# Altium footprint library 电阻.PcbLib: 63 footprints (part 3 of 4)
Each footprint in its own frame and in the unit in brackets; x right, y up, seen from the top. Pads: shape width x height; smd on the part's side, far side on the other; paste and mask are expansions set on the pad; w line width, h text height; cw(c..) or ccw(c..) is an arc to the next point about the centre after c.
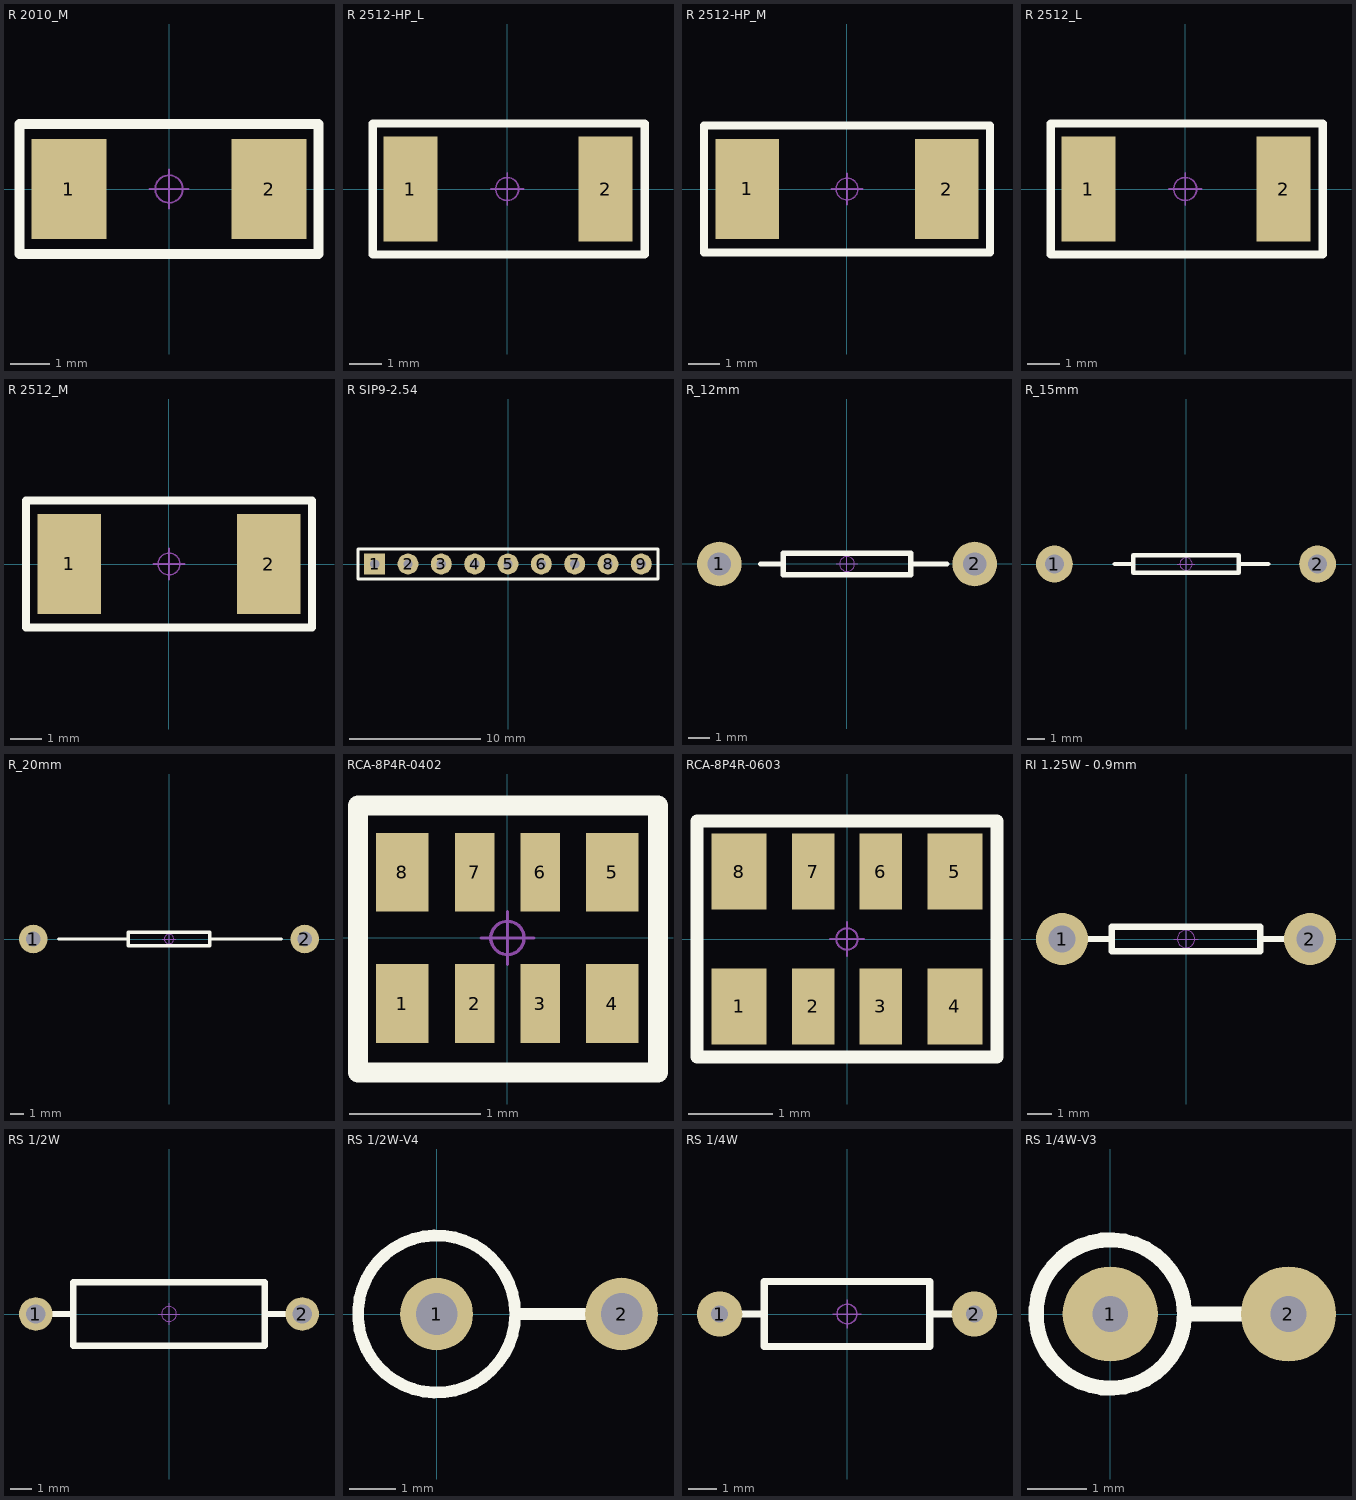
[diagram p2: the footprints below, top view; thin cyan lines are the x and y axes]

## R 2010_M [mm] "3/4W贴片电阻"
pads (2):
  rect 1.905x2.54 smd: 1(-2.55,0) 2(2.55,0)
Top Overlay:
  lines w0.254: -3.81,-1.651 -3.81,0.635 -3.81,1.651 1.27,1.651 3.81,1.651 3.81,-0.635 3.81,-1.651 1.27,-1.651 -3.81,-1.651
Mechanical 15:
  circle w0.05: c0,0 r0.35
  lines w0.05: -0.5,0 0.5,0 ; 0,-0.5 0,0.5
3D body "R 2010.STEP": height 0.55, standoff -0.01, extent -2.5,-1.25 2.5,1.25

## R 2512-HP_L [mm] "1W高精度贴片电阻"
pads (2):
  rect 1.65x3.2 smd: 1(-2.95,0) 2(3,0)
Top Overlay:
  lines w0.254: -4.1,-2 4.2,-2 4.2,2 -4.1,2 -4.1,-2
Mechanical 15:
  circle w0.05: c0,0 r0.35
  lines w0.05: -0.5,0 0.5,0 ; 0,-0.5 0,0.5
3D body "R 2512-HP.STEP": height 0.55, standoff -0.02, extent -3.2,-1.6 3.2,1.6

## R 2512-HP_M [mm] "1W高精度贴片电阻"
pads (2):
  rect 2.032x3.2 smd: 1(-3.2,0) 2(3.2,0)
Top Overlay:
  lines w0.254: -4.572,-2.032 4.572,-2.032 4.572,2.032 -4.572,2.032 -4.572,-2.032
Mechanical 15:
  circle w0.05: c0,0 r0.35
  lines w0.05: -0.5,0 0.5,0 ; 0,-0.5 0,0.5
3D body "R 2512-HP.STEP": height 0.55, standoff -0.02, extent -3.2,-1.6 3.2,1.6

## R 2512_L [mm] "1W贴片电阻"
pads (2):
  rect 1.65x3.2 smd: 1(-2.95,0) 2(3,0)
Top Overlay:
  lines w0.254: -4.1,-2 -4.1,2 4.2,2 4.2,-2 -4.1,-2
Mechanical 15:
  circle w0.05: c0,0 r0.35
  lines w0.05: -0.5,0 0.5,0 ; 0,-0.5 0,0.5
3D body "R 2512.STEP": height 0.55, standoff -0.02, extent -3.2,-1.6 3.2,1.6

## R 2512_M [mm] "1W贴片电阻"
pads (2):
  rect 2.032x3.2 smd: 1(-3.2,0) 2(3.2,0)
Top Overlay:
  lines w0.254: -4.572,-2.032 -4.572,2.032 4.572,2.032 4.572,-2.032 -4.572,-2.032
Mechanical 15:
  circle w0.05: c0,0 r0.35
  lines w0.05: -0.5,0 0.5,0 ; 0,-0.5 0,0.5
3D body "R 2512.STEP": height 0.55, standoff -0.02, extent -3.2,-1.6 3.2,1.6

## R SIP9-2.54 [mm] "22.6mm*5mm*2.2mm(长*宽*厚)"
pads (9):
  rect 1.6x1.6 hole 0.7: 1(-10.16,0)
  round 1.6 hole 0.7: 2(-7.62,0) 3(-5.08,0) 4(-2.54,0) 5(0,0) 6(2.54,0) 7(5.08,0) 8(7.62,0) 9(10.16,0)
Top Overlay:
  lines w0.203: -11.43,-1.143 -11.43,1.143 11.43,1.143 11.43,-1.143 -11.43,-1.143
Mechanical 15:
  circle w0.025: c0,0 r0.127
  lines w0.025: -0.2,0 0.2,0 ; 0,-0.2 0,0.2
3D body "R SIP9.STEP": height 5.2, standoff -3, extent -11.305,-0.958 11.306,0.958

## R_12mm [mm] "跳线电阻"
pads (2):
  round 2.1 hole 1.1: 1(-6,0) 2(6,0)
Top Overlay:
  lines w0.254: -4.064,0 -3,0 ; 3,0 4.699,0 ; -3,-0.5 -3,0.5 3,0.5 3,-0.5 -3,-0.5
Mechanical 15:
  circle w0.05: c0,0 r0.35
  lines w0.05: -0.5,0 0.5,0 ; 0,-0.5 0,0.5

## R_15mm [mm] "跳线电阻"
pads (2):
  round 2.1 hole 1.1: 1(-7.5,0) 2(7.5,0)
Top Overlay:
  lines w0.254: -4.064,0 -3,0 ; 3,0 4.699,0 ; -3,-0.5 -3,0.5 3,0.5 3,-0.5 -3,-0.5
Mechanical 15:
  circle w0.05: c0,0 r0.35
  lines w0.05: -0.5,0 0.5,0 ; 0,-0.5 0,0.5

## R_20mm [mm] "跳线电阻"
pads (2):
  round 2.1 hole 1.1: 1(-10,0) 2(10,0)
Top Overlay:
  lines w0.254: -8.128,0 -3,0 ; 3,0 8.255,0 ; -3,-0.5 3,-0.5 3,0.5 -3,0.5 -3,-0.5
Mechanical 15:
  circle w0.05: c0,0 r0.35
  lines w0.05: -0.5,0 0.5,0 ; 0,-0.5 0,0.5
3D body "50mR-0.9mm.STEP": height 15.4, standoff -3.84, extent -6,-0.45 6,0.45

## RCA-8P4R-0402 [mm] "2mm*1mm*0.45mm(长*宽*厚)"
pads (8):
  rect 0.4x0.6 smd: 1(-0.8,-0.5) 4(0.8,-0.5) 5(0.8,0.5) 8(-0.8,0.5)
  rect 0.3x0.6 smd: 2(-0.25,-0.5) 3(0.25,-0.5) 6(0.25,0.5) 7(-0.25,0.5)
Top Overlay:
  lines w0.152: -1.139,-1.024 1.147,-1.024 1.147,1.008 -1.139,1.008 -1.139,-1.024
Mechanical 15:
  circle w0.025: c0,0 r0.127
  lines w0.025: -0.2,0 0.2,0 ; 0,-0.2 0,0.2
3D body "RCA-8P4R-0402.STEP": height 0.45, standoff 0, extent -1,-0.5 1,0.5

## RCA-8P4R-0603 [mm] "3.2mm*1.6mm*0.6mm(长*宽*厚)"
pads (8):
  rect 0.65x0.9 smd: 1(-1.28,-0.8) 4(1.28,-0.8) 5(1.28,0.8) 8(-1.28,0.8)
  rect 0.5x0.9 smd: 2(-0.4,-0.8) 3(0.4,-0.8) 6(0.4,0.8) 7(-0.4,0.8)
Top Overlay:
  lines w0.152: -1.778,-1.397 -1.778,1.397 1.778,1.397 1.778,-1.397 -1.778,-1.397
Mechanical 15:
  circle w0.025: c0,0 r0.127
  lines w0.025: -0.2,0 0.2,0 ; 0,-0.2 0,0.2
3D body "RCA-8P4R-0603.STEP": height 0.6, standoff 0, extent -1.6,-0.8 1.6,0.8

## RI 1.25W - 0.9mm [mm] "电流检测电阻，脚距10mm，高15mm，直径0.9mm"
pads (2):
  round 2.1 hole 1.1: 1(-5,0) 2(5,0)
Top Overlay:
  lines w0.254: -4,0 -3,0 ; 3,0 4,0 ; -3,-0.5 -3,0.5 3,0.5 3,-0.5 -3,-0.5
Mechanical 15:
  circle w0.05: c0,0 r0.35
  lines w0.05: -0.5,0 0.5,0 ; 0,-0.5 0,0.5
3D body "50mR-0.9mm.STEP": height 15.4, standoff -3.84, extent -6,-0.45 6,0.45

## RS 1/2W [mm] "直插色环电阻，脚距12.5mm，直径3mm"
pads (2):
  round 1.575 hole 0.9: 1(-6.25,0) 2(6.25,0)
Top Overlay:
  lines w0.305: -5.5,0 -4.5,0 ; 4.5,0 5.5,0 ; -4.5,-1.5 -4.5,1.5 4.5,1.5 4.5,-1.5 -4.5,-1.5
Mechanical 15:
  circle w0.05: c0,0 r0.35
  lines w0.05: -0.5,0 0.5,0 ; 0,-0.5 0,0.5
3D body "RS 1-2W.STEP": height 3.11, standoff -3.4, extent -6.5,-1.51 6.5,1.51

## RS 1/2W-V4 [mil] "直插色环电阻，脚距4mm，直径3mm"
pads (2):
  round 62 hole 35.43: 1(0,0) 2(157.48,0)
Top Overlay:
  circle w10: c0,0 r66.93
  lines w10: 66.93,0 133.86,0
Mechanical 15:
  circle w1.97: c0,0 r13.78
  lines w1.97: -19.68,0 19.68,0 ; 0,-19.68 0,19.68
3D body "RS 1-2W-V4.STEP": height 423.17, standoff -137.89, extent -59.44,-59.44 167.33,59.46

## RS 1/4W [mm] "直插色环电阻，脚距9mm，直径2.3mm"
pads (2):
  round 1.6 hole 0.6: 1(-4.5,0) 2(4.5,0)
Top Overlay:
  lines w0.254: -3.683,0 -3.048,0 ; 3.048,0 3.683,0 ; -2.921,-1.143 2.921,-1.143 2.921,1.143 -2.921,1.143 -2.921,-1.143
Mechanical 15:
  circle w0.05: c0,0 r0.35
  lines w0.05: -0.5,0 0.5,0 ; 0,-0.5 0,0.5
3D body "RS 1-4W.STEP": height 2.32, standoff -3.49, extent -4.725,-1.16 4.725,1.16

## RS 1/4W-V3 [mm] "直插色环电阻，脚距3mm，直径2.3mm"
pads (2):
  round 1.6 hole 0.6: 1(0,0) 2(3,0)
Top Overlay:
  circle w0.254: c0,0 r1.25
  lines w0.254: 1.25,0 2.5,0
Mechanical 15:
  circle w0.05: c0,0 r0.35
  lines w0.05: -0.5,0 0.5,0 ; 0,-0.5 0,0.5
3D body "RS 1-4W-V3.STEP": height 7.42, standoff -3.5, extent -1.16,-1.16 3.225,1.16